# Altium footprint library Mylibr1.PcbLib: 92 footprints (part 3 of 6)
Each footprint in its own frame and in the unit in brackets; x right, y up, seen from the top. Pads: shape width x height; smd on the part's side, far side on the other; paste and mask are expansions set on the pad; w line width, h text height; cw(c..) or ccw(c..) is an arc to the next point about the centre after c.
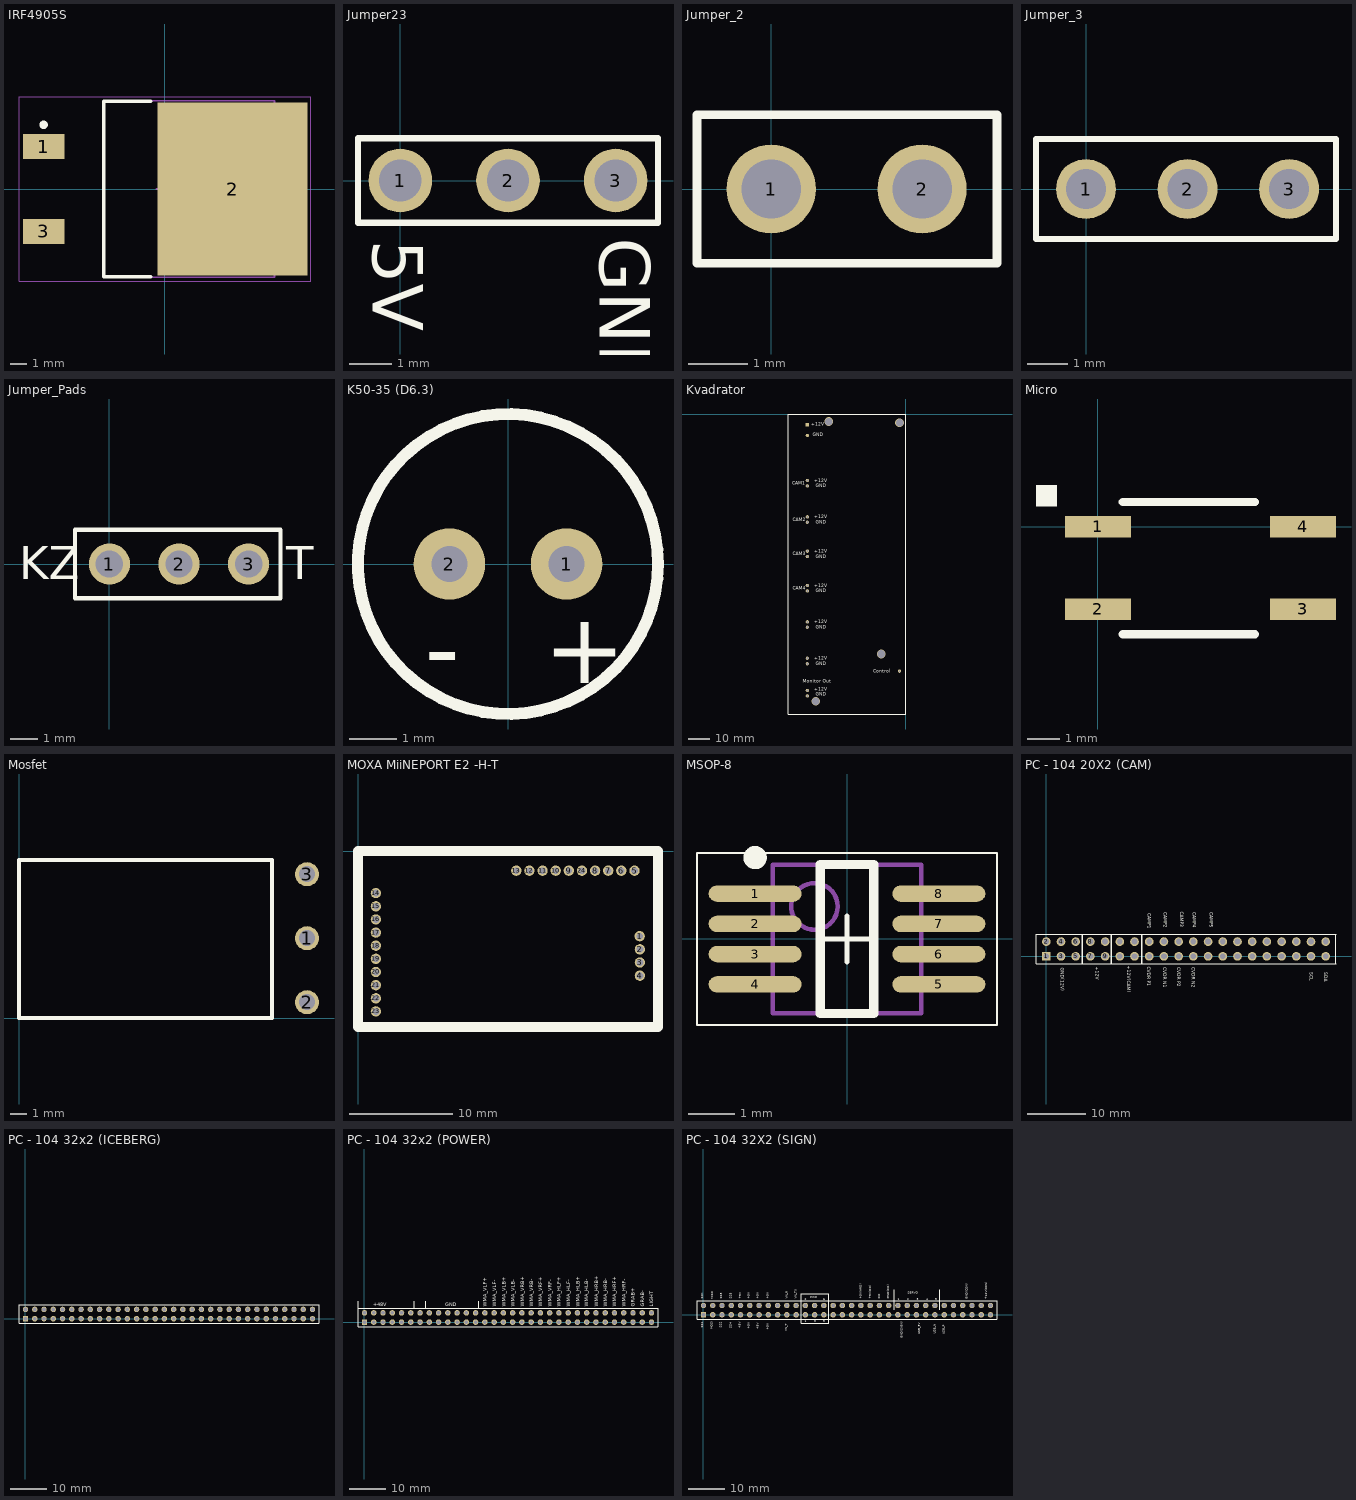
[diagram p2: the footprints below, top view; thin cyan lines are the x and y axes]

## IRF4905S [mm] "D2-PAK, 3-Pads, Body 8,21x8,63mm (max), IPC Medium Density"
height 4.69
pads (3):
  rect 2.5x1.5 smd: 1(-7.25,2.54) 3(-7.25,-2.54)
  rect 9x10.35 smd: 2(4.05,0)
Top Overlay:
  circle w0.25: c-7.25,3.84 r0.125
  lines w0.2: -0.85,-5.25 -3.65,-5.25 -3.65,5.25 -0.85,5.25
Mechanical 13:
  lines w0.1: -3.65,-5.275 6.56,-5.275 6.56,5.275 -3.65,5.275 -3.65,-5.275
Mechanical 15:
  lines w0.05: -8.725,-5.525 8.725,-5.525 8.725,5.525 -8.725,5.525 -8.725,-5.525
  lines w0.1: -0.5,0 0.5,0 ; 0,-0.5 0,0.5
3D body: height 4.69, standoff 0, extent -3.65,-5.275 6.56,5.275

## Jumper23 [mm] "Jumper for SYNC"
pads (3):
  round 1.5 hole 1: 1(0,0) 2(2.54,0) 3(5.08,0)
Top Overlay:
  lines w0.15: 1.83,-1 6.08,-1 ; 1.83,1 6.08,1 ; 3.25,-1 -1,-1 -1,1 3.25,1 ; 6.08,-1 6.08,1 ; 6.08,-1 6.08,1
  text "5V" at -0.65,-1.4 h1.2
  text "GND" at 4.7,-1.35 h1.2

## Jumper_2 [mm] "перемычка для плат"
pads (2):
  round 1.5 hole 1: 1(0,0) 2(2.54,0)
Top Overlay:
  lines w0.15: 3.775,-1.25 -1.25,-1.25 -1.25,1.25 3.775,1.25 ; 3.8,-1.25 3.8,1.25

## Jumper_3 [mm] "перемычка для плат"
pads (3):
  round 1.5 hole 1: 1(0,0) 2(2.54,0) 3(5.08,0)
Top Overlay:
  lines w0.15: -1.25,-1.25 6.25,-1.25 6.25,1.25 -1.25,1.25 -1.25,-1.25

## Jumper_Pads [mm] "перемычка для плат"
pads (3):
  round 1.5 hole 1: 1(0,0) 2(2.54,0) 3(5.08,0)
Top Overlay:
  lines w0.15: -1.25,-1.25 6.25,-1.25 6.25,1.25 -1.25,1.25 -1.25,-1.25
  text "T" at 6.45,-0.55 h1.2
  text "KZ" at -3.3,-0.55 h1.2

## K50-35 (D6.3) [mil]
height 433.07
pads (2):
  round 60 hole 30: 1(49.21,0) 2(-49.21,0)
Top Overlay:
  circle w10: c0,0 r125.98
  text "-" at -70,-100 h60
  text "+" at 30,-100 h60

## Kvadrator [mm]
pads (17):
  round 1.524 hole 1 square: 0(-46,-31) 2(-46,-48) 4(-46,-64) 6(-46,-80) 8(-46,-97) 10(-46,-114) 12(-46,-129)
  round 1.524 hole 1: 1(-46,-33.54) 3(-46,-50.54) 5(-46,-66.54) 7(-46,-82.54) 9(-46,-99.54) 11(-46,-116.54) 13(-46,-131.54)
  rect 1.524x1.524 smd: 14(-46,-5)
  round 1.524 smd: 15(-46,-10)
  round 1.524 hole 0.762: 16(-3,-120)
via -36,-3.5 diameter 4 hole 3.5
via -3,-4 diameter 4 hole 3.5
via -42,-134 diameter 4 hole 3.5
via -11.5,-112 diameter 4 hole 3.5
Top Overlay:
  lines w0.5: -55,-140 0,-140 0,0 -55,0 -55,-140
  text "+12V" at -42.75,-129.25 h1.52
  text "GND" at -42,-131.54 h1.52
  text "+12V" at -42.758,-114.75 h1.52
  text "GND" at -42,-117.25 h1.52
  text "+12V" at -42.758,-97.75 h1.52
  text "GND" at -42,-100.25 h1.52
  text "+12V" at -42.758,-80.75 h1.52
  text "GND" at -42,-83.25 h1.52
  text "+12V" at -42.758,-64.75 h1.52
  text "GND" at -42,-67.25 h1.52
  text "+12V" at -42.758,-48.75 h1.52
  text "GND" at -42,-51.25 h1.52
  text "GND" at -42,-34.25 h1.52
  text "+12V" at -42.758,-31.75 h1.52
  text "GND" at -43.5,-10.5 h1.52
  text "+12V" at -44.25,-5.5 h1.52
  text "CAM1" at -53,-33 h1.52
  text "CAM2" at -52.75,-50 h1.52
  text "CAM3" at -52.75,-66 h1.52
  text "CAM4" at -52.75,-82 h1.52
  text "Monitor Out" at -48.25,-125.5 h1.52
  text "Control" at -15.25,-120.75 h1.52
Bottom Overlay:
  lines w0.254: -55,-140 -55,0 0,0 0,-140 -55,-140
  text "Monitor Out" at -34.25,-125.5 h1.52
  text "+12V" at -36.683,-129 h1.52
  text "GND" at -37.433,-132 h1.52
  text "+12V" at -36.75,-114.25 h1.52
  text "GND" at -37.5,-117.25 h1.52
  text "+12V" at -37,-97.25 h1.52
  text "GND" at -37.75,-100.25 h1.52
  text "+12V" at -36.75,-80.722 h1.52
  text "GND" at -37.5,-83.722 h1.52
  text "+12V" at -36.5,-64.25 h1.52
  text "GND" at -37.25,-67.25 h1.52
  text "+12V" at -36.75,-48.754 h1.52
  text "GND" at -37.5,-51.754 h1.52
  text "GND" at -37.25,-33.75 h1.52
  text "+12V" at -36.5,-31 h1.52
  text "CAM1" at -47.75,-33.25 h1.52
  text "CAM2" at -47.5,-50.25 h1.52
  text "CAM3" at -47.5,-66.25 h1.52
  text "CAM4" at -47.5,-82.25 h1.52
  text "Control" at -6.5,-121 h1.52

## Micro [mil]
pads (4):
  rect 80x26 smd: 1(0,0) 2(0,-100) 3(248.03,-100) 4(248.03,0)
Top Overlay:
  region: -75,25 -50,25 -50,50 -75,50
  lines w10: 30,-130 190,-130 ; 30,30 190,30
3D body "User Library-HCPL-181-1.STEP": height 78.74, standoff -3.96, extent -19.68,-122.05 255.91,19.69

## Mosfet [mm]
pads (3):
  round 1.5 hole 1 unplated: 1(18,5) 2(18,1) 3(18,9)
Top Overlay:
  lines w0.254: 0,0 0,9.9 15.8,9.9 15.8,0 0,0

## MOXA MiiNEPORT E2 -H-T [mm]
pads (24):
  round 1 hole 0.65: 1(27.23,-8.23) 2(27.25,-9.5) 3(27.25,-10.77) 4(27.25,-12.04) 5(26.73,-1.89) 6(25.46,-1.89) 7(24.19,-1.89) 8(22.92,-1.89) 9(20.38,-1.89) 10(19.11,-1.89) 11(17.84,-1.89) 12(16.57,-1.89) 13(15.3,-1.89) 14(1.73,-4.06) 15(1.73,-5.34) 16(1.73,-6.61) 17(1.73,-7.88) 18(1.73,-9.15) 19(1.73,-10.42) 20(1.73,-11.69) 21(1.73,-12.96) 22(1.73,-14.23) 23(1.73,-15.5) 24(21.65,-1.89)
Top Overlay:
  lines w1: 0,-17 0,0 29,0 29,-17 0,-17

## MSOP-8 [mm]
height 1.1
pads (8):
  oval 2x0.35 smd: 1(-1.975,0.975) 2(-1.975,0.325) 3(-1.975,-0.325) 4(-1.975,-0.975) 5(1.975,-0.975) 6(1.975,-0.325) 7(1.975,0.325) 8(1.975,0.975)
Top Overlay:
  circle w0.25: c-1.975,1.75 r0.125
  lines w0.05: -3.225,-1.85 -3.225,1.85 3.225,1.85 3.225,-1.85 -3.225,-1.85
  lines w0.1: -0.5,0 0.5,0 ; 0,-0.5 0,0.5
  lines w0.2: -0.575,-1.6 -0.575,1.6 0.575,1.6 0.575,-1.6 -0.575,-1.6
Mechanical 13:
  circle w0.1: c-0.7,0.7 r0.5
  lines w0.1: -1.6,-1.6 -1.6,1.6 1.6,1.6 1.6,-1.6 -1.6,-1.6
3D body: height 1.1, standoff 0.15, extent -1.6,-1.6 1.6,1.6

## PC - 104 20X2 (CAM) [mm] "Connector; Header; 20x2 Position"
height 11.1
pads (40):
  rect 1.5x1.5 hole 1: 1(0,0)
  round 1.5 hole 1: 2(0,2.54) 3(2.54,0) 4(2.54,2.54) 5(5.08,0) 6(5.08,2.54) 7(7.62,0) 8(7.62,2.54) 9(10.16,0) 10(10.16,2.54) 11(12.7,0) 12(12.7,2.54) 13(15.24,0) 14(15.24,2.54) 15(17.78,0) 16(17.78,2.54) 17(20.32,0) 18(20.32,2.54) 19(22.86,0) 20(22.86,2.54) 21(25.4,0) 22(25.4,2.54) 23(27.94,0) 24(27.94,2.54) 25(30.48,0) 26(30.48,2.54) 27(33.02,0) 28(33.02,2.54) 29(35.56,0) 30(35.56,2.54) 31(38.1,0) 32(38.1,2.54) 33(40.64,0) 34(40.64,2.54) 35(43.18,0) 36(43.18,2.54) 37(45.72,0) 38(45.72,2.54) 39(48.26,0) 40(48.26,2.54)
Top Overlay:
  lines w0.2: -1.78,-1.27 50.04,-1.27 ; -1.78,3.81 50.04,3.81 ; -1.778,-1.27 -1.778,3.81 ; 50.038,-1.27 50.038,3.81
  lines w0.254: 6.25,-1.27 6.25,3.81 ; 11.25,-1.25 11.25,3.75 ; 16.5,-1.27 16.5,3.75
  text "CVDR N2" at 24.9,-1.883 h1
  text "CVDR P2" at 22.4,-1.883 h1
  text "CVDR N1" at 19.9,-1.883 h1
  text "CVDR P1" at 17.15,-1.767 h1
  text "SCL" at 45.25,-2.75 h1
  text "SDA" at 47.75,-2.75 h1
  text "GND(12V)" at 2.25,-2 h1
  text "+12V" at 8.25,-1.767 h1
  text "+12V(CAM)" at 13.75,-1.64 h1
  text "CAMP1" at 17.288,7.4 h1
  text "CAMP2" at 20.038,7.586 h1
  text "CAMP3" at 22.86,7.723 h1
  text "CAMP4" at 25.038,7.621 h1
  text "CAMP5" at 27.971,7.596 h1
Bottom Overlay:
  lines w0.2: -1.78,-1.27 50.04,-1.27 ; -1.78,3.81 50.04,3.81 ; -1.778,-1.27 -1.778,3.81 ; 50.038,-1.27 50.038,3.81
  lines w0.254: 6.25,-1.27 6.25,3.75 ; 11.25,-1.25 11.25,3.75 ; 16.5,-1.27 16.5,3.75 ; -1.78,-1.27 50.038,-1.27 50.038,3.81 -1.78,3.81 -1.78,-1.27
  text "CAMP3" at 22.722,4.6 h1
  text "CAMP2" at 19.9,4.468 h1
  text "CAMP1" at 17.288,4.468 h1
  text "SDA" at 47.612,-4.676 h1
  text "SCL" at 45.112,-4.544 h1
  text "GND(12V)" at 1.935,-6.221 h1
  text "+12V" at 8.123,-3.952 h1
  text "+12V(CAM)" at 14,-6.348 h1
  text "CAMP4" at 24.9,4.5 h1
  text "CAMP5" at 27.834,4.468 h1
  text "CVDR P1" at 17.013,-5.562 h1
  text "CVDR N1" at 19.763,-5.727 h1
  text "CVDR P2" at 22.263,-5.795 h1
  text "CVDR N2" at 24.763,-5.844 h1
3D body "pc104-40 тип 2.STEP": height 11.05, standoff -12.2, extent -1.52,-1.205 49.78,3.745

## PC - 104 32x2 (ICEBERG) [mm]
pads (64):
  rect 1.5x1.5 hole 1: 1(0,0)
  round 1.5 hole 1: 2(0,2.54) 3(2.54,0) 4(2.54,2.54) 5(5.08,0) 6(5.08,2.54) 7(7.62,0) 8(7.62,2.54) 9(10.16,0) 10(10.16,2.54) 11(12.7,0) 12(12.7,2.54) 13(15.24,0) 14(15.24,2.54) 15(17.78,0) 16(17.78,2.54) 17(20.32,0) 18(20.32,2.54) 19(22.86,0) 20(22.86,2.54) 21(25.4,0) 22(25.4,2.54) 23(27.94,0) 24(27.94,2.54) 25(30.48,0) 26(30.48,2.54) 27(33.02,0) 28(33.02,2.54) 29(35.56,0) 30(35.56,2.54) 31(38.1,0) 32(38.1,2.54) 33(40.64,0) 34(40.64,2.54) 35(43.18,0) 36(43.18,2.54) 37(45.72,0) 38(45.72,2.54) 39(48.26,0) 40(48.26,2.54) 41(50.8,0) 42(50.8,2.54) 43(53.34,0) 44(53.34,2.54) 45(55.88,0) 46(55.88,2.54) 47(58.42,0) 48(58.42,2.54) 49(60.96,0) 50(60.96,2.54) 51(63.5,0) 52(63.5,2.54) 53(66.04,0) 54(66.04,2.54) 55(68.58,0) 56(68.58,2.54) 57(71.12,0) 58(71.12,2.54) 59(73.66,0) 60(73.66,2.54) 61(76.2,0) 62(76.2,2.54) 63(78.74,0) 64(78.74,2.54)
Top Overlay:
  lines w0.2: -1.78,-1.27 80.52,-1.27 80.521,3.81 ; -1.78,3.86 80.52,3.86 ; -1.778,-1.27 -1.778,3.81
Bottom Overlay:
  lines w0.2: -1.78,-1.27 80.52,-1.27 80.521,3.81 ; -1.778,-1.27 -1.778,3.81
3D body "pc104-64 тип 2.STEP": height 11.05, standoff -12.2, extent -1.52,-1.205 80.26,3.745

## PC - 104 32x2 (POWER) [mm]
pads (64):
  rect 1.5x1.5 hole 1: 1(0,0)
  round 1.5 hole 1: 2(0,2.54) 3(2.54,0) 4(2.54,2.54) 5(5.08,0) 6(5.08,2.54) 7(7.62,0) 8(7.62,2.54) 9(10.16,0) 10(10.16,2.54) 11(12.7,0) 12(12.7,2.54) 13(15.24,0) 14(15.24,2.54) 15(17.78,0) 16(17.78,2.54) 17(20.32,0) 18(20.32,2.54) 19(22.86,0) 20(22.86,2.54) 21(25.4,0) 22(25.4,2.54) 23(27.94,0) 24(27.94,2.54) 25(30.48,0) 26(30.48,2.54) 27(33.02,0) 28(33.02,2.54) 29(35.56,0) 30(35.56,2.54) 31(38.1,0) 32(38.1,2.54) 33(40.64,0) 34(40.64,2.54) 35(43.18,0) 36(43.18,2.54) 37(45.72,0) 38(45.72,2.54) 39(48.26,0) 40(48.26,2.54) 41(50.8,0) 42(50.8,2.54) 43(53.34,0) 44(53.34,2.54) 45(55.88,0) 46(55.88,2.54) 47(58.42,0) 48(58.42,2.54) 49(60.96,0) 50(60.96,2.54) 51(63.5,0) 52(63.5,2.54) 53(66.04,0) 54(66.04,2.54) 55(68.58,0) 56(68.58,2.54) 57(71.12,0) 58(71.12,2.54) 59(73.66,0) 60(73.66,2.54) 61(76.2,0) 62(76.2,2.54) 63(78.74,0) 64(78.74,2.54)
Top Overlay:
  lines w0.2: -1.78,-1.27 80.52,-1.27 80.521,3.81 -1.78,3.81 ; -1.778,-1.27 -1.778,3.81
  lines w0.254: -1.78,3.81 -1.78,5.682 ; 13.672,3.81 13.672,5.73 ; 16.872,3.83 16.872,5.73 ; 31.372,3.81 31.372,5.73
  text "LIGHT" at 79.205,4.23 h1
  text "GRAB-" at 76.705,4.23 h1
  text "GRAB+" at 74.205,4.23 h1
  text "WMA_HLB+" at 59.005,4.23 h1
  text "WMA_HLF-" at 56.405,4.23 h1
  text "WMA_HLF+" at 53.905,4.23 h1
  text "WMA_VRF-" at 51.372,4.23 h1
  text "WMA_VRF+" at 48.772,4.23 h1
  text "WMA_VRB-" at 46.272,4.23 h1
  text "WMA_VRB+" at 43.772,4.23 h1
  text "WMA_HLB-" at 61.372,4.23 h1
  text "WMA_HRB+" at 64.072,4.23 h1
  text "WMA_HRB-" at 66.572,4.23 h1
  text "WMA_HRF+" at 69.072,4.23 h1
  text "WMA_HRF-" at 71.672,4.23 h1
  text "WMA_VLB-" at 41.205,4.23 h1
  text "WMA_VLB+" at 38.705,4.23 h1
  text "WMA_VLF-" at 36.105,4.23 h1
  text "WMA_VLF+" at 33.572,4.23 h1
  text "GND" at 22.172,4.33 h1
  text "+48V" at 2.472,4.33 h1
Bottom Overlay:
  lines w0.2: -1.78,-1.27 80.52,-1.27 80.521,3.81 -1.78,3.81 ; -1.778,-1.27 -1.778,3.81
  text "WMA_VLF+" at 33.839,11.994 h1
  text "GND" at 24.938,4.23 h1
  text "+48V" at 6.237,4.23 h1
  text "WMA_VLF-" at 36.372,11.994 h1
  text "WMA_VLB+" at 38.972,11.994 h1
  text "WMA_VLB-" at 41,12.094 h1
  text "WMA_VRB+" at 44.039,11.994 h1
  text "WMA_VRB-" at 46.539,11.994 h1
  text "WMA_VRF+" at 49.039,11.994 h1
  text "WMA_VRF-" at 51,12.405 h1
  text "WMA_HLF+" at 53.75,11.75 h1
  text "WMA_HLF-" at 56.672,11.994 h1
  text "WMA_HLB+" at 59.272,11.994 h1
  text "WMA_HLB-" at 61.639,11.994 h1
  text "WMA_HRB+" at 64.339,11.994 h1
  text "WMA_HRB-" at 66.04,11.75 h1
  text "WMA_HRF+" at 68.54,11.75 h1
  text "WMA_HRF-" at 71.14,11.75 h1
  text "GRAB+" at 73.75,8.829 h1
  text "GRAB-" at 76.805,8.995 h1
  text "LIGHT" at 79.305,8.829 h1
3D body "pc104-64 тип 2.STEP": height 11.05, standoff -12.2, extent -1.52,-1.205 80.26,3.745

## PC - 104 32X2 (SIGN) [mm] "Connector; Header; 32x2 Position 2.54mm"
height 11.1
pads (64):
  rect 1.5x1.5 hole 1: 1(0,0)
  round 1.5 hole 1: 2(0,2.54) 3(2.54,0) 4(2.54,2.54) 5(5.08,0) 6(5.08,2.54) 7(7.62,0) 8(7.62,2.54) 9(10.16,0) 10(10.16,2.54) 11(12.7,0) 12(12.7,2.54) 13(15.24,0) 14(15.24,2.54) 15(17.78,0) 16(17.78,2.54) 17(20.32,0) 18(20.32,2.54) 19(22.86,0) 20(22.86,2.54) 21(25.4,0) 22(25.4,2.54) 23(27.94,0) 24(27.94,2.54) 25(30.48,0) 26(30.48,2.54) 27(33.02,0) 28(33.02,2.54) 29(35.56,0) 30(35.56,2.54) 31(38.1,0) 32(38.1,2.54) 33(40.64,0) 34(40.64,2.54) 35(43.18,0) 36(43.18,2.54) 37(45.72,0) 38(45.72,2.54) 39(48.26,0) 40(48.26,2.54) 41(50.8,0) 42(50.8,2.54) 43(53.34,0) 44(53.34,2.54) 45(55.88,0) 46(55.88,2.54) 47(58.42,0) 48(58.42,2.54) 49(60.96,0) 50(60.96,2.54) 51(63.5,0) 52(63.5,2.54) 53(66.04,0) 54(66.04,2.54) 55(68.58,0) 56(68.58,2.54) 57(71.12,0) 58(71.12,2.54) 59(73.66,0) 60(73.66,2.54) 61(76.2,0) 62(76.2,2.54) 63(78.74,0) 64(78.74,2.54)
Top Layer:
  lines w0.3: 7.62,0 7.62,0.26 ; 25.4,0 25.4,0.26 ; 33.02,0 33.02,0.26 ; 63.5,-0.082 63.5,0
Top Overlay:
  lines w0.2: -1.78,-1.27 80.52,-1.27 80.521,3.81 -1.78,3.81 ; -1.778,-1.27 -1.778,3.81
  lines w0.254: 52.372,1.31 52.372,6.81 ; 64.872,1.31 64.872,6.81 ; 26.872,-2.39 34.372,-2.39 34.372,5.81 26.872,5.81 26.872,-2.39
  text "SCK" at 0.25,4.41 h1
  text "MISO" at 2.888,4.31 h1
  text "SS3" at 5.388,4.41 h1
  text "SS5" at 8,4.41 h1
  text "SS1" at 0.25,-3.5 h1
  text "MOSI" at 2.75,-4 h1
  text "SS2" at 5.25,-3.627 h1
  text "SS4" at 8,-3.754 h1
  text "+5V" at 10.672,4.41 h1
  text "+5V" at 13,4.41 h1
  text "+5V" at 15.5,4.41 h1
  text "+5V" at 18.172,4.41 h1
  text "+5V" at 10.5,-3.754 h1
  text "+5V" at 13,-3.881 h1
  text "+5V" at 15.5,-4 h1
  text "+5V" at 18.172,-4.127 h1
  text "VN_R" at 23.372,4.41 h1
  text "VN_T" at 23.25,-4.5 h1
  text "VN_TX" at 25.872,4.41 h1
  text "PWR" at 29.272,4.31 h1
  text "+5V(ARD)" at 43.672,4.41 h1
  text "+5V(DO)" at 46.272,4.41 h1
  text "2" at 27.772,4.01 h0.6
  text "6" at 32.872,4.01 h0.6
  text "1" at 27.772,-2.09 h0.6
  text "3" at 30.372,-2.09 h0.6
  text "5" at 32.872,-2.09 h0.6
  text "DO" at 48.772,4.41 h1
  text "GND(DO)" at 51.272,4.41 h1
  text "SERVO" at 55.972,5.51 h1
  text "1" at 53.272,4.01 h0.6
  text "2" at 55.872,4.01 h0.6
  text "3" at 58.472,4.01 h0.6
  text "4" at 61.072,4.01 h0.6
  text "5" at 63.572,4.01 h0.6
  text "GND(CON)" at 72.772,4.31 h1
  text "+12V(CON)" at 78.072,4.31 h1
  text "USB_P" at 66.5,-5.377 h1
  text "USB_N" at 64,-5.25 h1
  text "USB_5V" at 59.75,-5.377 h1
  text "GND(SIGN)" at 55,-6.39 h1
Bottom Overlay:
  lines w0.2: -1.78,-1.27 80.52,-1.27 80.521,3.81 -1.78,3.81 ; -1.778,-1.27 -1.778,3.81
  text "5" at 63.572,4.01 h0.6
  text "4" at 61.572,3.91 h0.6
  text "3" at 58.972,3.91 h0.6
  text "2" at 56.372,3.91 h0.6
  text "1" at 53.272,4.01 h0.6
  text "6" at 33.372,3.91 h0.6
  text "2" at 27.772,4.01 h0.6
  text "PWR" at 31,4.5 h1
  text "+12V(CON)" at 77.93,8.25 h1
  text "GND(CON)" at 72.63,8.25 h1
  text "USB_P" at 66.25,-2.237 h1
  text "USB_N" at 63.75,-2.11 h1
  text "USB_5V" at 59.5,-2.237 h1
  text "GND(SIGN)" at 54.75,-2.19 h1
  text "VN_T" at 23.388,-2.887 h1
  text "+5V" at 18.31,-2.514 h1
  text "+5V" at 15.638,-2.387 h1
  text "+5V" at 13.138,-2.268 h1
  text "+5V" at 10.638,-2.141 h1
  text "SS4" at 8.138,-2.141 h1
  text "SS2" at 5.388,-2.014 h1
  text "MOSI" at 2.888,-2.387 h1
  text "SS1" at 0.388,-1.887 h1
  text "SCK" at 0.388,6.334 h1
  text "MISO" at 3.025,6.234 h1
  text "SS3" at 5.525,6.334 h1
  text "SS5" at 8.138,6.334 h1
  text "+5V" at 10.81,6.334 h1
  text "+5V" at 13.138,6.334 h1
  text "+5V" at 15.638,6.334 h1
  text "+5V" at 18.31,6.334 h1
  text "VN_R" at 23.51,6.334 h1
  text "VN_TX" at 26.01,6.334 h1
  text "+5V(ARD)" at 43.53,8.35 h1
  text "+5V(DO)" at 46.13,8.35 h1
  text "DO" at 48.91,5.769 h1
  text "GND(DO)" at 51.13,8.35 h1
  text "SERVO" at 59.15,5.372 h1
  text "1" at 28.072,-2.19 h0.6
  text "3" at 30.872,-2.19 h0.6
  text "5" at 33.372,-2.19 h0.6
3D body "pc104-64 тип 2.STEP": height 11.05, standoff -12.2, extent -1.52,-1.205 80.26,3.745

## plug X64(Iceberg) [mm]